# EAGLE library part CROS_SLIDE (library CROSS_SLIDER)
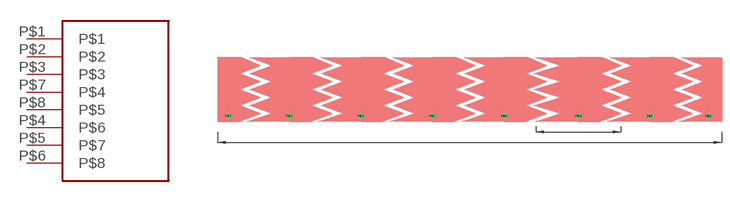
[diagram p0: symbol with the pads of CROSS_SLIDE; footprint CROSS_SLIDE]

Designator prefix SLIDE01

## CROS_SLIDE  [CROSS_SLIDE]
P$1  P$1
P$2  P$2
P$3  P$3
P$4  P$6
P$5  P$7
P$6  P$8
P$7  P$4
P$8  P$5

## Footprint CROSS_SLIDE (pad centres in mm)
drill 0.6: P$1 2,1; P$2 13.5,1; P$3 27,1; P$4 68,1; P$5 81.5,1; P$6 92.5,1; P$7 40.5,1; P$8 54,1